# Altium footprint library 105848.PcbLib: 26 footprints (part 1 of 2)
Each footprint in its own frame and in the unit in brackets; x right, y up, seen from the top. Pads: shape width x height; smd on the part's side, far side on the other; paste and mask are expansions set on the pad; w line width, h text height; cw(c..) or ccw(c..) is an arc to the next point about the centre after c.
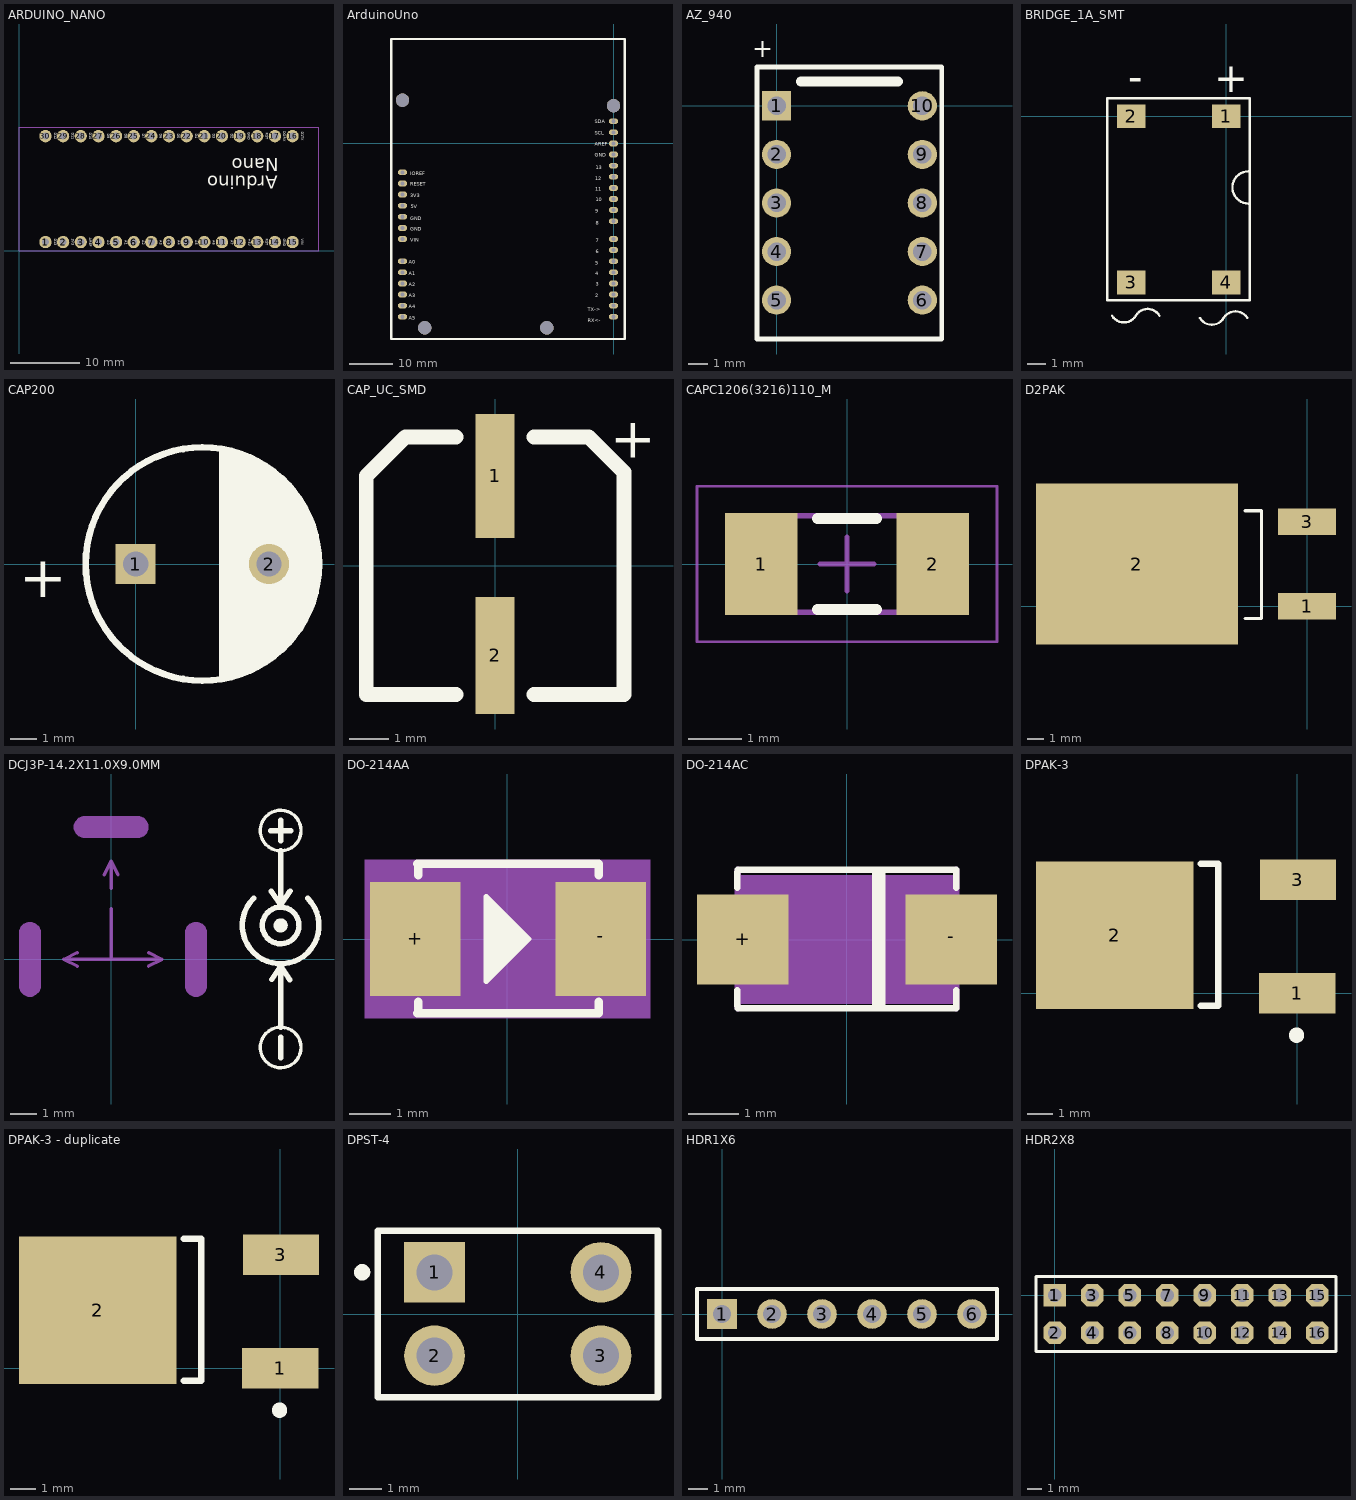
[diagram p0: the footprints below, top view; thin cyan lines are the x and y axes]

## ARDUINO_NANO [mil]
pads (30):
  round 70 hole 40: 1(150,50) 2(250,50) 3(350,50) 4(450,50) 5(550,50) 6(650,50) 7(750,50) 8(850,50) 9(950,50) 10(1050,50) 11(1150,50) 12(1250,50) 13(1350,50) 14(1450,50) 15(1550,50) 16(1550,650) 17(1450,650) 18(1350,650) 19(1250,650) 20(1150,650) 21(1050,650) 22(950,650) 23(850,650) 24(750,650) 25(650,650) 26(550,650) 27(450,650) 28(350,650) 29(250,650) 30(150,650)
Top Overlay:
  text "Arduino" at 1467,427 h75
  text "Nano" at 1471,526 h75
  text "DORX" at 1491,678 h23.25
  text "RST" at 1393,670 h23.25
  text "GND" at 1291,672 h23.25
  text "D2" at 1193,664 h23.25
  text "D3" at 1093,664 h23.25
  text "D4" at 993,664 h23.25
  text "D5" at 891,664 h23.25
  text "D6" at 793,664 h23.25
  text "D7" at 693,663 h23.25
  text "D8" at 593,663 h23.25
  text "D9" at 493,663 h23.25
  text "D10" at 393,668 h23.25
  text "D11" at 293,668 h23.25
  text "D12" at 193,668 h23.25
  text "GND" at 1493,70 h23.25
  text "RST" at 1393,70 h23.25
  text "+5V" at 1293,70 h23.25
  text "A0" at 493,60 h23.25
  text "A1" at 593,60 h23.25
  text "A2" at 693,60 h23.25
  text "A3" at 793,60 h23.25
  text "A4" at 893,60 h23.25
  text "A5" at 993,60 h23.25
  text "A6" at 1093,60 h23.25
  text "A7" at 1193,60 h23.25
  text "AREF" at 393,75 h23.25
  text "3V3" at 293,70 h23.25
  text "D13" at 193,70 h23.25
  text "VIN" at 1593,70 h23.25
  text "D1TX" at 1595,674 h23.25
Mechanical 1:
  lines w5: 0,0 0,700 1700,700 1700,0 0,0
Mechanical 16:
  rectangle: 940,40 960,60
  rectangle: 840,40 860,60
  rectangle: 740,40 760,60
  rectangle: 640,40 660,60
  rectangle: 540,40 560,60
  rectangle: 440,40 460,60
  rectangle: 340,40 360,60
  rectangle: 240,40 260,60
  rectangle: 140,40 160,60
  rectangle: 1540,40 1560,60
  rectangle: 1440,40 1460,60
  rectangle: 1340,40 1360,60
  rectangle: 1240,40 1260,60
  rectangle: 1140,40 1160,60
  rectangle: 1040,40 1060,60
  rectangle: 940,640 960,660
  rectangle: 840,640 860,660
  rectangle: 740,640 760,660
  rectangle: 640,640 660,660
  rectangle: 540,640 560,660
  rectangle: 440,640 460,660
  rectangle: 340,640 360,660
  rectangle: 240,640 260,660
  rectangle: 140,640 160,660
  rectangle: 1540,640 1560,660
  rectangle: 1440,640 1460,660
  rectangle: 1340,640 1360,660
  rectangle: 1240,640 1260,660
  rectangle: 1140,640 1160,660
  rectangle: 1040,640 1060,660

## ArduinoUno [mil]
pads (35):
  oct 80x52 hole 37: 0(0,-1560) 1(0,-1460) 2(0,-1360) 3(0,-1260) 3V3(-1900,-460) 4(0,-1160) 5(0,-1060) 5V(-1900,-560) 6(0,-960) 7(0,-860) 8(0,-700) 9(0,-600) 10(0,-500) 11(0,-400) 12(0,-300) 13(0,-200) A0(-1900,-1060) A1(-1900,-1160) A2(-1900,-1260) A3(-1900,-1360) A4(-1900,-1460) A5(-1900,-1560) AREF(0,0) GND(-1900,-760) GND1(-1900,-660) GND2(0,-100) IOREF(-1900,-260) RESET(-1900,-360) SCL(0,100) SDA(0,200) VIN(-1900,-860)
  round 120 hole 120 unplated paste+0 mask+5: ""(-1900,390) ""(-1700,-1660) ""(-600,-1660) ""(0,340)
Top Overlay:
  lines w20: -2000,-1760 100,-1760 100,790 100,940 -2000,940 -2000,-1760
  text "RX<-" at -230,-1610 h34
  text "RESET" at -1830,-380 h34
  text "GND" at -170,-120 h34
  text "AREF" at -170,-20 h34
  text "SCL" at -170,80 h34
  text "A5" at -1845,-1585 h34
  text "A4" at -1845,-1485 h34
  text "A3" at -1845,-1385 h34
  text "A2" at -1845,-1285 h34
  text "A1" at -1845,-1185 h34
  text "A0" at -1845,-1085 h34
  text "8" at -161.93,-730 h34
  text "7" at -161.93,-890 h34
  text "6" at -161.93,-990 h34
  text "5" at -163.71,-1090 h34
  text "4" at -163.71,-1185 h34
  text "2" at -163.71,-1385 h34
  text "3" at -161.93,-1280 h34
  text "10" at -161.93,-520 h34
  text "9" at -163.71,-625 h34
  text "11" at -163.71,-425 h34
  text "12" at -163.71,-330 h34
  text "13" at -161.93,-230 h34
  text "SDA" at -170,180 h34
  text "VIN" at -1830,-885 h34
  text "IOREF" at -1830,-285 h34
  text "3V3" at -1830,-485 h34
  text "5V" at -1825,-585 h34
  text "GND" at -1830,-690 h34
  text "GND" at -1830,-785 h34
  text "TX->" at -230,-1510 h34

## AZ_940 [mil]
pads (10):
  rect 60x60 hole 38: 1(0,0)
  round 60 hole 38: 2(0,-100) 3(0,-200) 4(0,-300) 5(0,-400) 6(300,-400) 7(300,-300) 8(300,-200) 9(300,-100) 10(300,0)
Top Overlay:
  lines w10: -40,-480 -40,80 340,80 340,-480 -40,-480
  lines w20: 50,50 250,50
  text "+" at -50,100 h37.5

## BRIDGE_1A_SMT [mil]
pads (4):
  rect 60x50 smd: 1(0,0) 2(-200,0) 3(-200,-350) 4(0,-350)
Top Overlay:
  lines w5: -240,-420 ccw(c-215,-405) -190,-420 cw(c-165,-435) -140,-420 ; -55,-425 ccw(c-30,-410) -5,-425 cw(c20,-440) 45,-425 ; 47.5,-184 cw(c47.5,-150) 47.5,-116 ; -250,-387.5 50,-387.5 50,37.5 -250,37.5 -250,-387.5
  text "-" at -175,100 h62.5
  text "+" at -25,50 h62.5

## CAP200 [mil]
pads (2):
  rect 60x60 hole 38: 1(0,0)
  round 60 hole 38: 2(200,0)
Top Overlay:
  circle w10: c100,0 r175
  region: 125,175 125,-175 150,-170 180,-160 200,-140 225,-125 250,-100 260,-80 270,-50 275,-25 275,25 270,50 260,80 240,100 225,125 200,140 180,160 150,170
  text "+" at -175,-50 h62.5

## CAP_UC_SMD [mm]
pads (2):
  rect 1x3.175 smd: 1(0,2.3)
  rect 1x3 smd: 2(0,-2.3)
Top Overlay:
  lines w0.381: -1,-3.3 -3.3,-3.3 -3.3,2.3 -2.3,3.3 -1,3.3 ; 1,-3.3 3.3,-3.3 3.3,2.4 2.4,3.3 1,3.3
  text "+" at 2.946,2.769 h1.02

## CAPC1206(3216)110_M [mm]
pads (2):
  rect 1.35x1.9 smd: 1(-1.6,0) 2(1.6,0)
Top Overlay:
  lines w0.2: -0.55,-0.85 0.55,-0.85 ; -0.55,0.85 0.55,0.85
Mechanical 13:
  lines w0.1: -1.7,-0.9 1.7,-0.9 1.7,0.9 -1.7,0.9 -1.7,-0.9
Mechanical 15:
  lines w0.05: -2.8,-1.45 2.8,-1.45 2.8,1.45 -2.8,1.45 -2.8,-1.45
  lines w0.1: -0.5,0 0.5,0 ; 0,-0.5 0,0.5
3D body: height 1.1, standoff 0, extent 1.2,-0.9 1.7,0.9
3D body: height 1.1, standoff 0, extent -1.7,-0.9 -1.2,0.9
3D body: height 1.1, standoff 0, extent -1.2,-0.9 1.2,0.9

## D2PAK [mm]
pads (3):
  rect 3.5x1.6 smd: 1(0,0) 3(0,5.08)
  rect 12.2x9.75 smd: 2(-10.275,2.54)
Top Overlay:
  lines w0.2: -3.75,-0.75 -2.75,-0.75 -2.75,5.75 -3.75,5.75
3D body: height 8.31, standoff 1.36, extent -5.341,2.273 -5.341,2.273
3D body "DPAK-TO-252.STEP": height 2.63, standoff 0.2, extent -9.43,-0.865 0.99,5.865
3D body: height 8.31, standoff 1.36, extent -6.89,-1.524 -6.89,-1.524

## DCJ3P-14.2X11.0X9.0MM [mil]
Top Overlay:
  circle w5: c250,50 r27
  circle w5: c250,50 r8
  circle w5: c250,190 r30
  circle w5: c250,-130 r30
  circle w8: c250,50 r27
  circle w5: c250,50 r8
  circle w5: c250,190 r30
  circle w5: c250,-130 r30
  lines w5: 210,90 ccw(c250,50) 290,90 ; 250,45 250,55 ; 250,45 245,50 250,55 ; 250,45 255,50 250,55
  lines w8: 210,90 ccw(c250,50) 290,90 ; 235,190 265,190 ; 236.36,100.46 250,80 ; 236.82,-29.77 250,-10 ; 250,-145 250,-115 ; 250,-100 250,-10 ; 250,160 250,80 ; 250,175 250,205 ; 263.49,-30.24 250,-10 ; 263.85,100.77 250,80
Mechanical 11:
  region: -120,55 -123.18,55 -129.06,52.56 -133.56,48.06 -136,42.18 -136,39 -136,-39 -136,-42.18 -133.56,-48.06 -129.06,-52.56 -123.18,-55 -120,-55 -116.82,-55 -110.94,-52.56 -106.44,-48.06 -104,-42.18 -104,-39 -104,39 -104,42.18 -106.44,48.06 -110.94,52.56 -116.82,55
  region: 125,55 121.82,55 115.94,52.56 111.44,48.06 109,42.18 109,39 109,-39 109,-42.18 111.44,-48.06 115.94,-52.56 121.82,-55 125,-55 128.18,-55 134.06,-52.56 138.56,-48.06 141,-42.18 141,-39 141,39 141,42.18 138.56,48.06 134.06,52.56 128.18,55
  region: 55,195 55,198.18 52.56,204.06 48.06,208.56 42.18,211 39,211 -39,211 -42.18,211 -48.06,208.56 -52.56,204.06 -55,198.18 -55,195 -55,191.82 -52.56,185.94 -48.06,181.44 -42.18,179 -39,179 39,179 42.18,179 48.06,181.44 52.56,185.94 55,191.82
  lines w5: -50,-10 -70,0 ; -50,10 -70,0 ; -10,125 0,145 ; 0,75 0,0 ; 0,105 0,145 ; 10,125 0,145 ; 55,-10 75,0 ; 55,10 75,0 ; -70,0 0,0 ; 0,0 75,0

## DO-214AA [mil]
pads (2):
  rect 85x108 smd: +(-87.01,0) -(88,0)
Top Overlay:
  lines w5: -15,-35 -20,-40 -20,40 -15,35 ; -15,-35 -15,35 ; -15,-35 -10,-30 ; -15,35 -10,30 ; -10,-30 -5,-25 ; -10,-30 -10,30 ; -10,30 -5,25 ; -5,-25 -5,25 ; -5,-25 0,-20 ; -5,25 0,20 ; 0,-20 5,-15 ; 0,-20 0,20 ; 0,20 5,15 ; 5,-15 10,-10 ; 5,-15 5,15 ; 5,15 10,10 ; 10,-10 15,-5 ; 10,-10 10,10 ; 10,10 15,5 ; 15,-5 20,0 15,5 ; 15,-5 15,5
  lines w8: -85.04,-70.08 -84.25,-70.08 ; -85.04,71 -84.25,71 ; -84.25,-59.06 -84.25,-70.08 ; -84.25,60 -84.25,71 ; 86,-59.06 86,-70.08 -84.25,-70.08 ; 86,60 86,71 -84.25,71
Mechanical 16:
  region: 135,75 -135,75 -135,-75 135,-75
  lines w8: -85.04,-70.08 -85.04,71 ; 86,-70.08 86,71

## DO-214AC [mil]
pads (2):
  rect 71x70 smd: +(-80.39,0) -(81,0)
Top Overlay:
  region: 20,-53.15 30,-53.15 30,54 20,54
  lines w5: -84.65,-51.18 -84.65,-39.37 ; -84.65,40 -84.65,52 ; -84.45,-53.15 85,-53.15 ; -84.45,54 85,54 ; 85,-51.18 85,-39.37 ; 85,40 85,52
Mechanical 16:
  rectangle: -85,-50 85,50
  lines w5: -84.45,-53.15 -84.45,54 ; 85,-53.15 85,54
3D body "DO-214AC(SMA).step": height 90, standoff 0, extent -108,-55 108,55

## DPAK-3 [mm]
pads (3):
  rect 3x1.6 smd: 1(0,0) 3(0.025,4.47)
  rect 6.2x5.8 smd: 2(-7.18,2.285)
Top Overlay:
  circle w0.5: c-0.026,-1.65 r0.051
  lines w0.254: -3.8,-0.5 -3.1,-0.5 -3.1,5.1 -3.8,5.1
3D body: height 8.31, standoff 1.36, extent -8.89,-1.524 -8.89,-1.524
3D body "DPAK-TO-252.STEP": height 2.63, standoff 0.2, extent -9.756,-1.079 0.664,5.651
3D body: height 8.31, standoff 1.36, extent -7.341,2.273 -7.341,2.273

## DPAK-3 - duplicate [mm]
pads (3):
  rect 3x1.6 smd: 1(0,0) 3(0.025,4.47)
  rect 6.2x5.8 smd: 2(-7.18,2.285)
Top Overlay:
  circle w0.5: c-0.026,-1.65 r0.051
  lines w0.254: -3.8,-0.5 -3.1,-0.5 -3.1,5.1 -3.8,5.1
3D body: height 8.31, standoff 1.36, extent -7.341,2.273 -7.341,2.273
3D body "DPAK-TO-252.STEP": height 2.63, standoff 0.2, extent -9.756,-1.079 0.664,5.651
3D body: height 8.31, standoff 1.36, extent -8.89,-1.524 -8.89,-1.524

## DPST-4 [mm]
pads (4):
  rect 1.85x1.85 hole 1.1: 1(-2.54,1.27)
  round 1.85 hole 1.1: 2(-2.54,-1.27) 3(2.54,-1.27) 4(2.54,1.27)
Top Overlay:
  circle w0.25: c-4.751,1.274 r0.125
  lines w0.2: -4.28,-2.54 4.28,-2.54 4.28,2.54 -4.28,2.54 -4.28,-2.54

## HDR1X6 [mm]
pads (6):
  rect 1.5x1.5 hole 0.9: 1(0,0)
  round 1.5 hole 0.9: 2(2.54,0) 3(5.08,0) 4(7.62,0) 5(10.16,0) 6(12.7,0)
Top Overlay:
  lines w0.2: -1.27,-1.27 13.97,-1.27 13.97,1.27 -1.27,1.27 -1.27,-1.27

## HDR2X8 [mm]
pads (16):
  rect 1.5x1.5 hole 0.94: 1(0,0)
  oct 1.5x1.5 hole 0.94: 2(0,-2.54) 3(2.54,0) 4(2.54,-2.54) 5(5.08,0) 6(5.08,-2.54) 7(7.62,0) 8(7.62,-2.54) 9(10.16,0) 10(10.16,-2.54) 11(12.7,0) 12(12.7,-2.54) 13(15.24,0) 14(15.24,-2.54) 15(17.78,0) 16(17.78,-2.54)
Top Overlay:
  lines w0.2: -1.27,-3.81 19.05,-3.81 19.05,1.27 -1.27,1.27 -1.27,-3.81